# Altium schematic symbol library BarrelJack.SchLib: 1 symbol
Pins are listed as number, name and electrical type; pins without a type are passive.

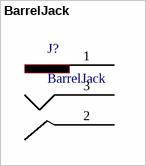
[diagram p0: symbol BarrelJack]

## BarrelJack
designator J?
pins: 1, 2, 3